# EAGLE library part ADXL345 (library MyLibrary)
SPI/I2C Digital Acceleration sensor
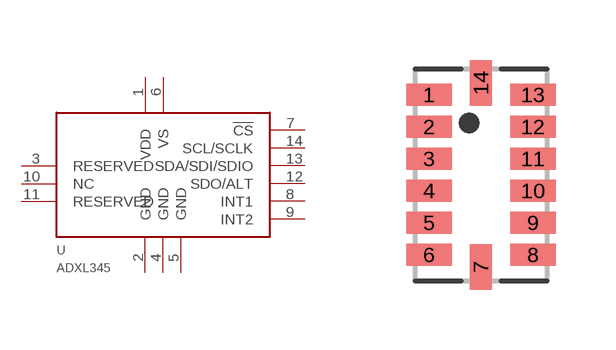
[diagram p8: symbol with the pads of LGA14; footprint LGA14]

Designator prefix U

## ADXL345  [LGA14]
1  VDD
2  GND
3  RESERVED
4  GND
5  GND
6  VS
7  !CS
8  INT1
9  INT2
10  NC
11  RESERVED
12  SDO/ALT
13  SDA/SDI/SDIO
14  SCL/SCLK

## Footprint LGA14 (pad centres in mm)
smd 1.145 x 0.55: 1 -1.3,2; 2 -1.3,1.2; 3 -1.3,0.4; 4 -1.3,-0.4; 5 -1.3,-1.2; 6 -1.3,-2; 8 1.3,-2; 9 1.3,-1.2; 10 1.3,-0.4; 11 1.3,0.4; 12 1.3,1.2; 13 1.3,2
smd 0.55 x 1.145: 7 0,-2.3; 14 0,2.3